# EAGLE library part FPC-1.0X10 (library pimoroni-connectors)
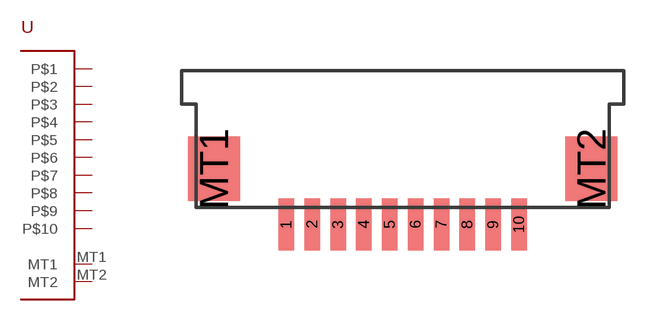
[diagram p4: symbol with the pads of FPC_1.0X10; footprint FPC_1.0X10]

Designator prefix -

## FPC-1.0X10  [FPC_1.0X10]
1  P$1
2  P$2
3  P$3
4  P$4
5  P$5
6  P$6
7  P$7
8  P$8
9  P$9
10  P$10
MT1  MT1
MT2  MT2

## Footprint FPC_1.0X10 (pad centres in mm)
smd 0.6 x 2: 1 -4.5,-0.65; 2 -3.5,-0.65; 3 -2.5,-0.65; 4 -1.5,-0.65; 5 -0.5,-0.65; 6 0.5,-0.65; 7 1.5,-0.65; 8 2.5,-0.65; 9 3.5,-0.65; 10 4.5,-0.65
smd 2 x 2.5: MT1 -7.3,1.5; MT2 7.3,1.5